# Altium schematic symbol library RESISTOR_SCH.Schlib: 1 symbol
Pins are listed as number, name and electrical type; pins without a type are passive.

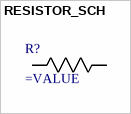
[diagram p0: symbol RESISTOR_SCH]

## RESISTOR_SCH
designator R?
pins: 1 R1, 2 R2